# Altium footprint library inductor-nkl.PCBLIB: 59 footprints (part 4 of 4)
Each footprint in its own frame and in the unit in brackets; x right, y up, seen from the top. Pads: shape width x height; smd on the part's side, far side on the other; paste and mask are expansions set on the pad; w line width, h text height; cw(c..) or ccw(c..) is an arc to the next point about the centre after c.
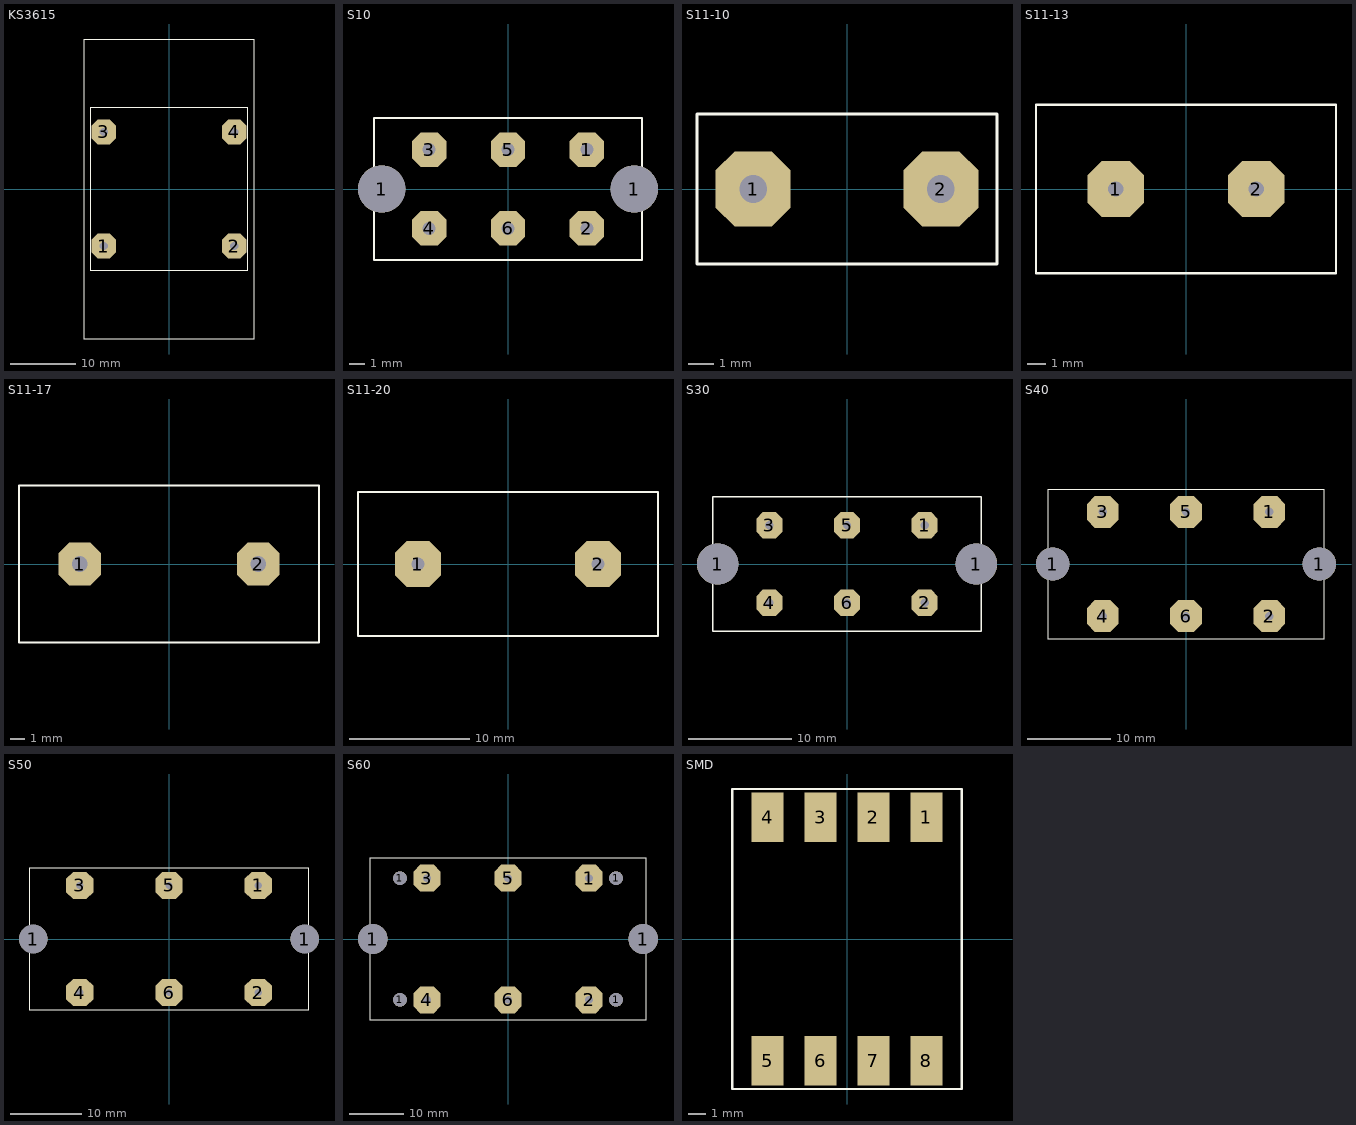
[diagram p3: the footprints below, top view; thin cyan lines are the x and y axes]

## KS3615 [mil]
pads (4):
  oct 150x150 hole 50: 1(-393.7,-344.49) 2(393.7,-344.49) 3(-393.7,344.49) 4(393.7,344.49)
Top Overlay:
  lines w5: -511.81,-905.51 -511.81,905.51 511.81,905.51 511.81,-905.51 -511.81,-905.51 ; -472.44,-492.13 -472.44,492.13 472.44,492.13 472.44,-492.13 -472.44,-492.13

## S10 [mil]
pads (8):
  round 118.11 hole 118.11: 1(-314.96,0) 1(314.96,0)
  oct 86x86 hole 32: 1(196.85,98.43) 2(196.85,-98.43) 3(-196.85,98.43) 4(-196.85,-98.43) 5(0,98.43) 6(0,-98.43)
Top Overlay:
  lines w5: -334.65,-177.17 334.65,-177.17 334.65,177.17 -334.65,177.17 -334.65,-177.17

## S11-10 [mm]
pads (2):
  oct 3x3 hole 1.1: 1(-3.75,0) 2(3.75,0)
Top Overlay:
  lines w0.127: -6,-3 6,-3 6,3 -6,3 -6,-3

## S11-13 [mm]
pads (2):
  oct 3x3 hole 0.813: 1(-3.75,0) 2(3.75,0)
Top Overlay:
  lines w0.127: -8,-4.5 8,-4.5 8,4.5 -8,4.5 -8,-4.5

## S11-17 [mm]
pads (2):
  oct 3x3 hole 1.1: 1(-6.25,0) 2(6.25,0)
Top Overlay:
  lines w0.127: -10.5,-5.5 10.5,-5.5 10.5,5.5 -10.5,5.5 -10.5,-5.5

## S11-20 [mil]
pads (2):
  oct 150x150 hole 43.31: 1(-295.28,0) 2(295.28,0)
Top Overlay:
  lines w5: -492.13,-236.22 492.13,-236.22 492.13,236.22 -492.13,236.22 -492.13,-236.22

## S30 [mil]
pads (8):
  round 157.48 hole 157.48: 1(-492.13,0) 1(492.13,0)
  oct 100x100 hole 32: 1(295.28,147.64) 2(295.28,-147.64) 3(-295.28,147.64) 4(-295.28,-147.64) 5(0,147.64) 6(0,-147.64)
Top Overlay:
  lines w5: -511.81,-255.91 511.81,-255.91 511.81,255.91 -511.81,255.91 -511.81,-255.91

## S40 [mil]
pads (8):
  round 157.48 hole 157.48: 1(-629.92,0) 1(629.92,0)
  oct 150x150 hole 40: 1(393.7,246.06) 2(393.7,-246.06) 3(-393.7,246.06) 4(-393.7,-246.06) 5(0,246.06) 6(0,-246.06)
Top Overlay:
  lines w5: -649.61,-354.33 649.61,-354.33 649.61,354.33 -649.61,354.33 -649.61,-354.33

## S50 [mil]
pads (8):
  round 157.48 hole 157.48: 1(-748.03,0) 1(748.03,0)
  oct 150x150 hole 40: 1(492.13,295.28) 2(492.13,-295.28) 3(-492.13,295.28) 4(-492.13,-295.28) 5(0,295.28) 6(0,-295.28)
Top Overlay:
  lines w5: -767.72,-393.7 767.72,-393.7 767.72,393.7 -767.72,393.7 -767.72,-393.7

## S60 [mm]
pads (12):
  round 5.5 hole 5.5: 1(-25,0) 1(25,0)
  round 2.54 hole 2.54: 1(-20,-11.25) 1(-20,11.25) 1(20,-11.25) 1(20,11.25)
  oct 5x5 hole 1.422: 1(15,11.25) 2(15,-11.25) 3(-15,11.25) 4(-15,-11.25) 5(0,11.25) 6(0,-11.25)
Top Overlay:
  lines w0.127: -25.5,-15 25.5,-15 25.5,15 -25.5,15 -25.5,-15

## SMD [mil]
pads (8):
  rect 70.87x110.24 smd: 1(177.17,271.65) 2(59.06,271.65) 3(-59.06,271.65) 4(-177.17,271.65) 5(-177.17,-271.65) 6(-59.06,-271.65) 7(59.06,-271.65) 8(177.17,-271.65)
Top Overlay:
  lines w5: -255.91,-334.65 255.91,-334.65 255.91,334.65 -255.91,334.65 -255.91,-334.65